# EAGLE library part XR3173EID-F (library Exar_By_element14_Batch_1)
TRANSCEIVERS
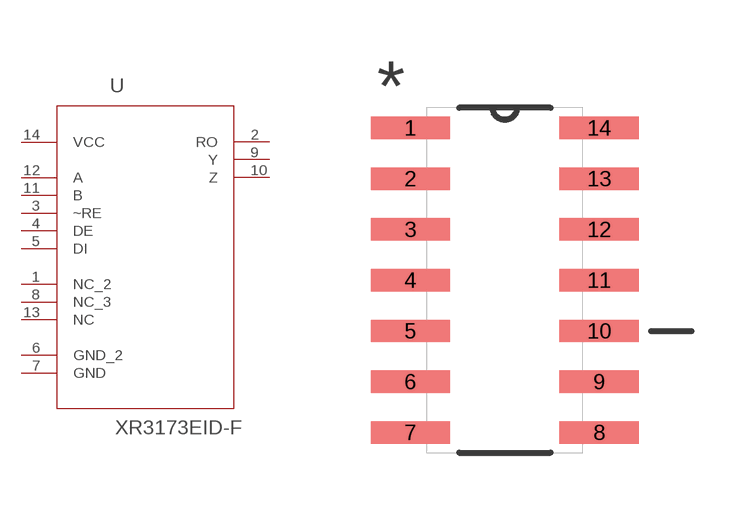
[diagram p85: symbol with the pads of SOIC127P600X175-14N; footprint SOIC127P600X175-14N]

Designator prefix U

## XR3173EID-F (MPN: XR3173EID-F; OC_FARNELL: 1821926; OC_NEWARK: 60R6698; PACKAGE: SOIC-14; SUPPLIER: Exar)  [SOIC127P600X175-14N]
1  NC_2  nc
2  RO  out
3  ~RE  in
4  DE  in
5  DI  in
6  GND_2  pas
7  GND  pas
8  NC_3  nc
9  Y  out
10  Z  out
11  B  in
12  A  in
13  NC  nc
14  VCC  pwr

## Footprint SOIC127P600X175-14N (pad centres in mm)
smd 1.981 x 0.559: 1 -2.362,3.81; 2 -2.362,2.54; 3 -2.362,1.27; 4 -2.362,0; 5 -2.362,-1.27; 6 -2.362,-2.54; 7 -2.362,-3.81; 8 2.362,-3.81; 9 2.362,-2.54; 10 2.362,-1.27; 11 2.362,0; 12 2.362,1.27; 13 2.362,2.54; 14 2.362,3.81